# Altium schematic symbol library CONN-IPEX.SchLib: 1 symbol
Pins are listed as number, name and electrical type; pins without a type are passive.

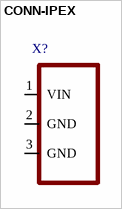
[diagram p0: symbol CONN-IPEX]

## CONN-IPEX
designator X?
pins: 1 VIN, 2 GND, 3 GND